# EAGLE library part 621X32242921 (library Eagle_BOARD-TO-BOARD_CONNECTORS (rev18b))
WR-PHD 2.00mm Dual SMT Socket Header, 32 Pins=>Code : Con_BTB_SHD_2.00_2_621032242921 <http://katalog.we-online.de/media/images/v2/Family_Dual_Socket_Header_WR-PHD_6130xx242921.jpg> 6210xx242921 Details see: http://katalog.we-online.de/en/em/PHD_2_00_SMT_DUAL_SOCKET_HEADER_6210XX242921 6213xx242921 Details see: http://katalog.we-online.de/en/em/PHD_2_00_SMT_DUAL_SOCKET_HEADER_REEL_6213XX242921 Created 2014-06-03, Karrer Zheng 2014 (C) Würth Elektronik
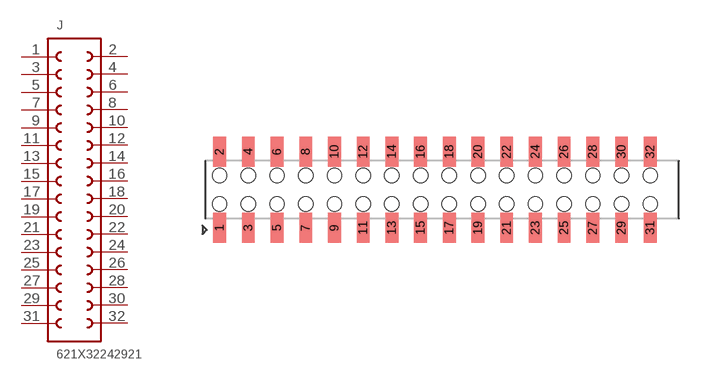
[diagram p262: symbol with the pads of 621X32242921; footprint 621X32242921]

Designator prefix J

## 621X32242921  [621X32242921]
1  1  pas
2  32  pas
3  2  pas
4  31  pas
5  3  pas
6  30  pas
7  4  pas
8  29  pas
9  5  pas
10  28  pas
11  6  pas
12  27  pas
13  7  pas
14  26  pas
15  8  pas
16  25  pas
17  9  pas
18  24  pas
19  10  pas
20  23  pas
21  11  pas
22  22  pas
23  12  pas
24  21  pas
25  13  pas
26  20  pas
27  14  pas
28  19  pas
29  15  pas
30  18  pas
31  16  pas
32  17  pas

## Footprint 621X32242921 (pad centres in mm)
WR-PHD 2.00mm Dual SMT Socket Header, 32 Pins
smd 0.89 x 2.1: 1 -15,-2.65; 2 -15,2.65; 3 -13,-2.65; 4 -13,2.65; 5 -11,-2.65; 6 -11,2.65; 7 -9,-2.65; 8 -9,2.65; 9 -7,-2.65; 10 -7,2.65; 11 -5,-2.65; 12 -5,2.65; 13 -3,-2.65; 14 -3,2.65; 15 -1,-2.65; 16 -1,2.65; 17 1,-2.65; 18 1,2.65; 19 3,-2.65; 20 3,2.65; 21 5,-2.65; 22 5,2.65; 23 7,-2.65; 24 7,2.65; 25 9,-2.65; 26 9,2.65; 27 11,-2.65; 28 11,2.65; 29 13,-2.65; 30 13,2.65; 31 15,-2.65; 32 15,2.65
hole 1 at -15,1
hole 1 at -13,1
hole 1 at -13,-1
hole 1 at -15,-1
hole 1 at -11,1
hole 1 at -11,-1
hole 1 at -9,-1
hole 1 at -9,1
hole 1 at -7,1
hole 1 at -7,-1
hole 1 at -5,-1
hole 1 at -3,-1
hole 1 at -3,1
hole 1 at -5,1
hole 1 at -1,1
hole 1 at 1,1
hole 1 at 1,-1
hole 1 at -1,-1
hole 1 at 3,1
hole 1 at 3,-1
hole 1 at 5,1
hole 1 at 7,1
hole 1 at 7,-1
hole 1 at 5,-1
hole 1 at 9,1
hole 1 at 11,1
hole 1 at 11,-1
hole 1 at 9,-1
hole 1 at 13,1
hole 1 at 13,-1
hole 1 at 15,-1
hole 1 at 15,1